# EAGLE library part MAX3051 (library SpecialIC)
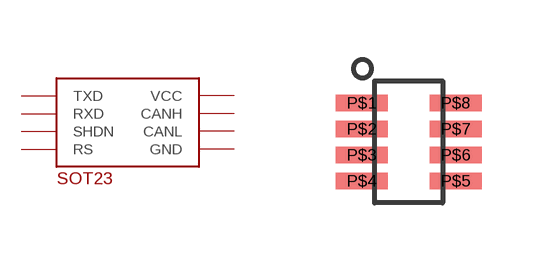
[diagram p9: symbol with the pads of SOT23-8L; footprint SOT23-8L]

Designator prefix SOT23

## MAX3051 (DISTRIBUTOR: Mouser; ORDER_CODE: 700-MAX3051EKAT; PLACE_PART: YES; UNIT_PRICE: 2.64; UNIT_PRICE_100X: 1.73; UNIT_PRICE_10X: 2.64; UNIT_PRICE_25X: 1.98; UNIT_PRICE_50X: 1.88)  [SOT23-8L]
P$1  TXD
P$2  GND
P$3  VCC
P$4  RXD
P$5  SHDN
P$6  CANL
P$7  CANH
P$8  RS

## Footprint SOT23-8L (pad centres in mm)
smd 1.3 x 0.42: P$1 -1.175,1.3; P$2 -1.175,0.65; P$3 -1.175,0; P$4 -1.175,-0.65; P$5 1.175,-0.65; P$6 1.175,0; P$7 1.175,0.65; P$8 1.175,1.3